# Altium schematic symbol library RUF-Conectores.SchLib: 69 symbols
Pins are listed as number, name and electrical type; pins without a type are passive.

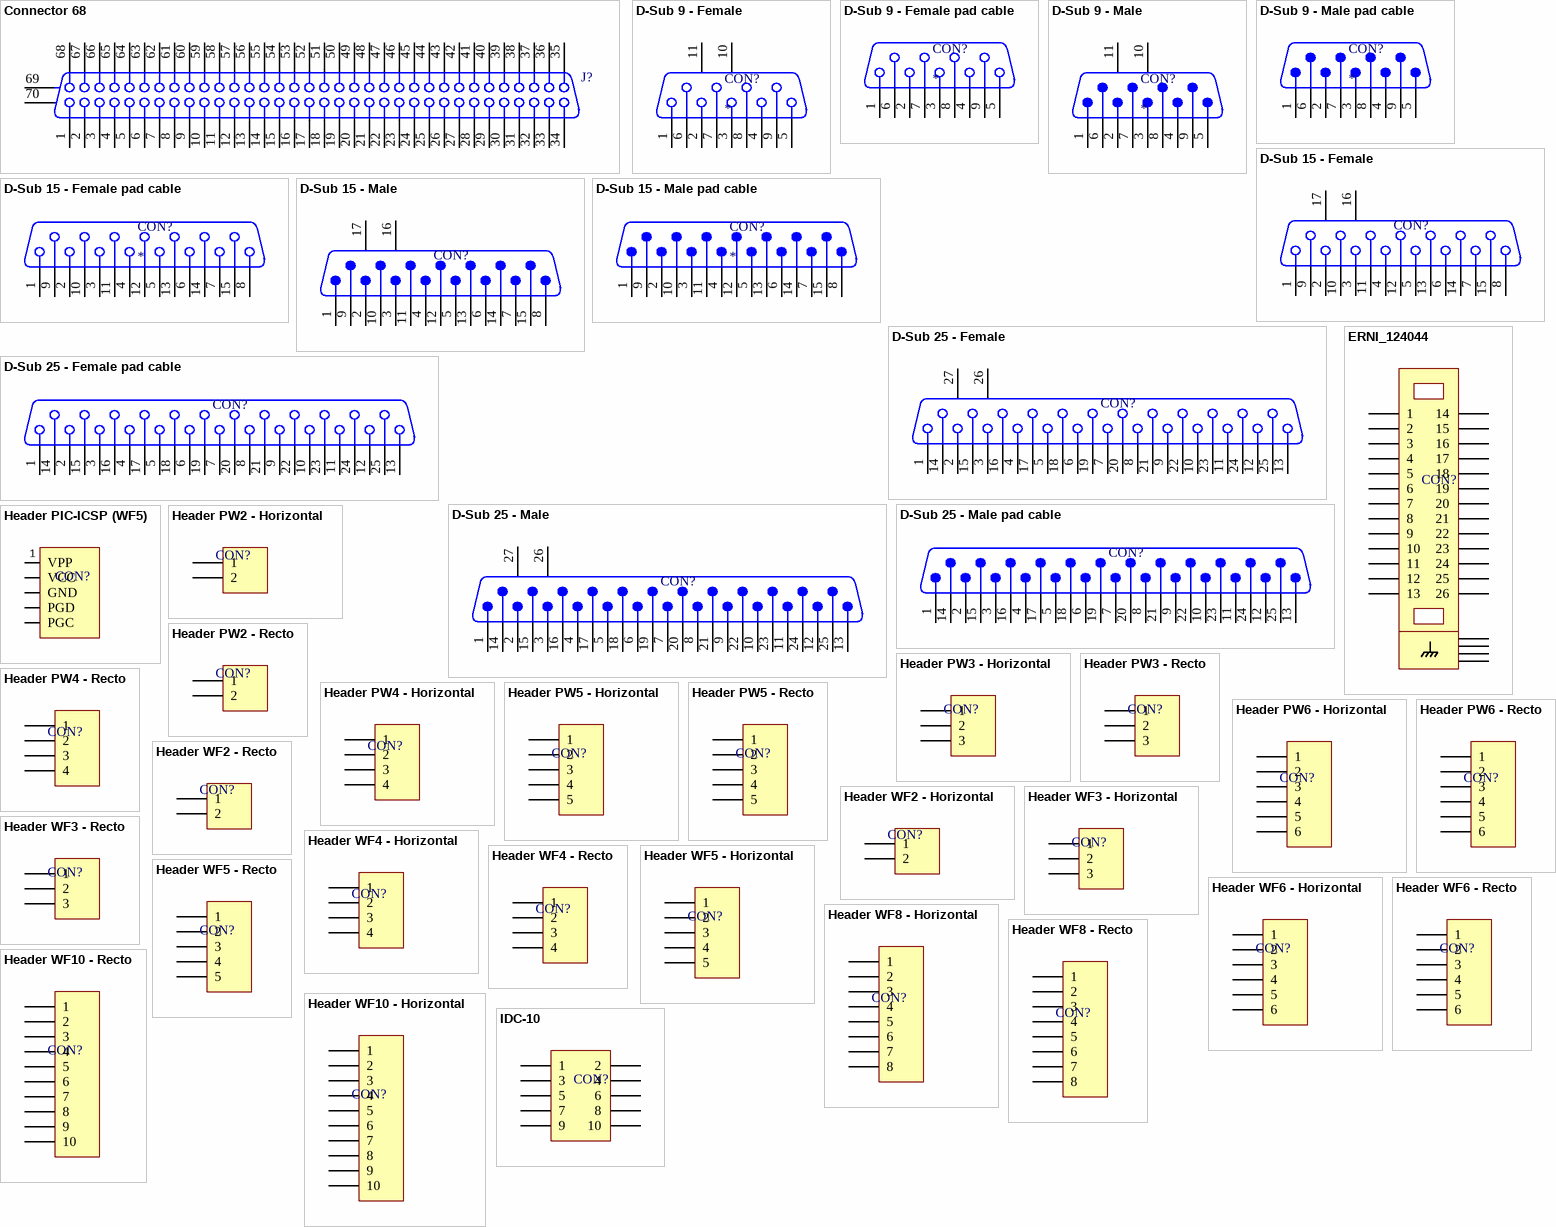
[diagram p0: symbols Connector 68 to IDC-10]

## Connector 68
designator J?
Receptacle Header Assemby; PackageDocument: B; Positions: 68; Published: 15-Jun-2001; LatestRevisionDate: 17-Jul-2002; LatestRevisionNote: Re-released for DXP Platform.; DatasheetDocument: 1-Oct-1983; PackageReference: 178240-8; Publisher: Altium Limited; Orientation: Right Angle
footprint CHAMP1.27-2H68 (Connector; 68 Position; Right Angle; Pitch 1.27 mm)
signal-integrity model Connector
footprint TYCO POST HEADER AMPLIMITE (Connector; 68 Position; Right Angle; Pitch 1.27 mm)
pins: 1, 2, 3, 4, 5, 6, 7, 8, 9, 10, 11, 12, 13, 14, 15, 16, 17, 18, 19, 20, 21, 22, 23, 24, 25, 26, 27, 28, 29, 30, 31, 32, 33, 34, 35, 36, 37, 38, 39, 40, 41, 42, 43, 44, 45, 46, 47, 48, 49, 50, 51, 52, 53, 54, 55, 56, 57, 58, 59, 60, 61, 62, 63, 64, 65, 66, 67, 68, 69 MH1, 70 MH2

## D-Sub 9 - Female
designator CON?
PROVEEDOR: *; VALOR: *; PART NUMBER: *; FABRICANTE: *; CODIGO STI: *
footprint D-Sub 9 - Female
pins: 1, 2, 3, 4, 5, 6, 7, 8, 9, 10 MH1, 11 MH2

## D-Sub 9 - Female pad cable
designator CON?
PROVEEDOR: *; VALOR: *; FABRICANTE: *; CODIGO STI: *; PART NUMBER: *
footprint D-Sub 9 - Female PAD
footprint D-Sub 9 - Female PAD MINI
pins: 1, 2, 3, 4, 5, 6, 7, 8, 9

## D-Sub 9 - Male
designator CON?
PROVEEDOR: *; VALOR: *; FABRICANTE: *; CODIGO STI: *; PART NUMBER: *
footprint D-Sub 9 - Male
pins: 1, 2, 3, 4, 5, 6, 7, 8, 9, 10 MH1, 11 MH2

## D-Sub 9 - Male pad cable
designator CON?
PROVEEDOR: *; VALOR: *; FABRICANTE: *; CODIGO STI: *; PART NUMBER: *
footprint D-Sub 9 - Male PAD
footprint D-Sub 9 - Male PAD MINI
pins: 1, 2, 3, 4, 5, 6, 7, 8, 9

## D-Sub 15 - Female
designator CON?  (value not drawn)
PROVEEDOR: *; VALOR: *; FABRICANTE: *; CODIGO STI: *; PART NUMBER: *
footprint D-Sub 15 - Female
pins: 1, 2, 3, 4, 5, 6, 7, 8, 9, 10, 11, 12, 13, 14, 15, 16 MH1, 17 MH2

## D-Sub 15 - Female pad cable
designator CON?
PROVEEDOR: *; VALOR: *; FABRICANTE: *; CODIGO STI: *; PART NUMBER: *
footprint D-Sub 15 - Female PAD
footprint D-Sub 15 - Female PAD MINI
pins: 1, 2, 3, 4, 5, 6, 7, 8, 9, 10, 11, 12, 13, 14, 15

## D-Sub 15 - Male
designator CON?  (value not drawn)
PROVEEDOR: *; VALOR: *; FABRICANTE: *; CODIGO STI: *; PART NUMBER: *
footprint D-Sub 15 - Male
pins: 1, 2, 3, 4, 5, 6, 7, 8, 9, 10, 11, 12, 13, 14, 15, 16 MH1, 17 MH2

## D-Sub 15 - Male pad cable
designator CON?
PROVEEDOR: *; VALOR: *; FABRICANTE: *; CODIGO STI: *; PART NUMBER: *
footprint D-Sub 15 - Male PAD
footprint D-Sub 15 - Male PAD MINI
pins: 1, 2, 3, 4, 5, 6, 7, 8, 9, 10, 11, 12, 13, 14, 15

## D-Sub 25 - Female
designator CON?  (value not drawn)
PROVEEDOR: *; VALOR: *; FABRICANTE: *; CODIGO STI: *; PART NUMBER: *
footprint D-Sub 25 - Female
pins: 1, 2, 3, 4, 5, 6, 7, 8, 9, 10, 11, 12, 13, 14, 15, 16, 17, 18, 19, 20, 21, 22, 23, 24, 25, 26 MH1, 27 MH2

## D-Sub 25 - Female pad cable
designator CON?  (value not drawn)
PROVEEDOR: *; VALOR: *; FABRICANTE: *; CODIGO STI: *; PART NUMBER: *
footprint D-Sub 25 - Female PAD
footprint D-Sub 25 - Female PAD MINI
pins: 1, 2, 3, 4, 5, 6, 7, 8, 9, 10, 11, 12, 13, 14, 15, 16, 17, 18, 19, 20, 21, 22, 23, 24, 25

## D-Sub 25 - Male
designator CON?  (value not drawn)
PROVEEDOR: *; VALOR: *; FABRICANTE: *; CODIGO STI: *; PART NUMBER: *
footprint D-Sub 25 - Male
pins: 1, 2, 3, 4, 5, 6, 7, 8, 9, 10, 11, 12, 13, 14, 15, 16, 17, 18, 19, 20, 21, 22, 23, 24, 25, 26 MH1, 27 MH2

## D-Sub 25 - Male pad cable
designator CON?  (value not drawn)
PROVEEDOR: *; VALOR: *; FABRICANTE: *; CODIGO STI: *; PART NUMBER: *
footprint D-Sub 25 - Male PAD
footprint D-Sub 25 - Male PAD MINI
pins: 1, 2, 3, 4, 5, 6, 7, 8, 9, 10, 11, 12, 13, 14, 15, 16, 17, 18, 19, 20, 21, 22, 23, 24, 25

## ERNI_124044
designator CON?  (value not drawn)
Conector de 26 vias hembra; VALOR: 124044; FABRICANTE: ERNI; PROVEEDOR: *; PART NUMBER: *; CODIGO STI: *
footprint ERNI_124044
pins: 1, 2, 3, 4, 5, 6, 7, 8, 9, 10, 11, 12, 13, 14, 15, 16, 17, 18, 19, 20, 21, 22, 23, 24, 25, 26, 27 CHASIS "Shield", 28 CHASIS "Shield", 29 CHASIS "Shield", 30 CHASIS "Shield"

## Header PIC-ICSP (WF5)
designator CON?  (value not drawn)
Header WF - paso 0.1"; VALOR: *; PROVEEDOR: *; FABRICANTE: *; CODIGO STI: *; PART NUMBER: *
footprint WF5 - Recto (Conector con traba)
footprint WF5 - Horizontal
pins: 1 VPP, 2 VCC, 3 GND, 4 PGD, 5 PGC

## Header PW2 - Horizontal
designator CON?  (value not drawn)
Header PW - paso 0.156"; PROVEEDOR: *; FABRICANTE: *; CODIGO STI: *; PART NUMBER: *
footprint PW2 - HORIZONTAL (Conector 7 [A] 2 pines con traba)
pins: 1, 2

## Header PW2 - Recto
designator CON?  (value not drawn)
Header PW - paso 0.156"; PROVEEDOR: *; FABRICANTE: *; CODIGO STI: *; PART NUMBER: *
footprint PW2 - Recto (Conector 7 [A] 2 pines con traba)
pins: 1, 2

## Header PW3 - Horizontal
designator CON?  (value not drawn)
Header PW - paso 0.156"; PROVEEDOR: *; FABRICANTE: *; CODIGO STI: *; PART NUMBER: *
footprint PW3 - HORIZONTAL (Conector 7 [A] 2 pines con traba)
pins: 1, 2, 3

## Header PW3 - Recto
designator CON?  (value not drawn)
Header PW - paso 0.156"; PROVEEDOR: *; FABRICANTE: *; CODIGO STI: *; PART NUMBER: *
footprint PW3 - Recto (Conector 7 [A] 2 pines con traba)
pins: 1, 2, 3

## Header PW4 - Horizontal
designator CON?  (value not drawn)
Header PW - paso 0.156"; PROVEEDOR: *; FABRICANTE: *; CODIGO STI: *; PART NUMBER: *
footprint PW4 - HORIZONTAL (Conector 7 [A] 2 pines con traba)
pins: 1, 2, 3, 4

## Header PW4 - Recto
designator CON?  (value not drawn)
Header PW - paso 0.156"; PROVEEDOR: *; FABRICANTE: *; CODIGO STI: *; PART NUMBER: *
footprint PW4 - Recto (Conector 7 [A] 2 pines con traba)
pins: 1, 2, 3, 4

## Header PW5 - Horizontal
designator CON?  (value not drawn)
Header PW - paso 0.156"; PROVEEDOR: *; FABRICANTE: *; CODIGO STI: *; PART NUMBER: *
footprint PW5 - HORIZONTAL
pins: 1, 2, 3, 4, 5

## Header PW5 - Recto
designator CON?  (value not drawn)
Header PW - paso 0.156"; PROVEEDOR: *; FABRICANTE: *; CODIGO STI: *; PART NUMBER: *
footprint PW5 - Recto
pins: 1, 2, 3, 4, 5

## Header PW6 - Horizontal
designator CON?  (value not drawn)
Header PW - paso 0.156"; PROVEEDOR: *; FABRICANTE: *; CODIGO STI: *; PART NUMBER: *
footprint PW6 - HORIZONTAL
pins: 1, 2, 3, 4, 5, 6

## Header PW6 - Recto
designator CON?  (value not drawn)
Header PW - paso 0.156"; PROVEEDOR: *; FABRICANTE: *; CODIGO STI: *; PART NUMBER: *
footprint PW6 - Recto
pins: 1, 2, 3, 4, 5, 6

## Header WF2 - Horizontal
designator CON?  (value not drawn)
Header WF - paso 0.1"; VALOR: *; PROVEEDOR: *; FABRICANTE: *; CODIGO STI: *; PART NUMBER: *
footprint WF2 - HORIZONTAL
pins: 1, 2

## Header WF2 - Recto
designator CON?  (value not drawn)
Header WF - paso 0.1"; PROVEEDOR: *; FABRICANTE: *; CODIGO STI: *; PART NUMBER: *
footprint WF2 - RECTO (Conector con traba)
pins: 1, 2

## Header WF3 - Horizontal
designator CON?  (value not drawn)
Header WF - paso 0.1"; VALOR: *; PROVEEDOR: *; FABRICANTE: *; CODIGO STI: *; PART NUMBER: *
footprint WF3 - HORIZONTAL
pins: 1, 2, 3

## Header WF3 - Recto
designator CON?  (value not drawn)
Header WF - paso 0.1"; PROVEEDOR: 3 vias; FABRICANTE: *; VALOR: *; CODIGO STI: *; PART NUMBER: *
footprint WF3 - RECTO (Conector con traba)
pins: 1, 2, 3

## Header WF4 - Horizontal
designator CON?  (value not drawn)
Header WF - paso 0.1"; PROVEEDOR: *; PART NUMBER: *; FABRICANTE: *; CODIGO STI: *
footprint WF4 - Horizontal
pins: 1, 2, 3, 4

## Header WF4 - Recto
designator CON?  (value not drawn)
Header WF - paso 0.1"; PROVEEDOR: *; VALOR: *; FABRICANTE: *; PART NUMBER: *; CODIGO STI: *
footprint WF4 - Recto (Conector con traba)
pins: 1, 2, 3, 4

## Header WF5 - Horizontal
designator CON?  (value not drawn)
Header WF - paso 0.1"; VALOR: *; PROVEEDOR: *; FABRICANTE: *; CODIGO STI: *; PART NUMBER: *
footprint WF5 - HORIZONTAL
pins: 1, 2, 3, 4, 5

## Header WF5 - Recto
designator CON?  (value not drawn)
Header WF - paso 0.1"; PROVEEDOR: *; FABRICANTE: *; CODIGO STI: *; PART NUMBER: *
footprint WF5 - Recto (Conector con traba)
pins: 1, 2, 3, 4, 5

## Header WF6 - Horizontal
designator CON?  (value not drawn)
Header WF - paso 0.1"; PROVEEDOR: *; FABRICANTE: *; CODIGO STI: *; PART NUMBER: *
footprint WF6 - Horizontal
pins: 1, 2, 3, 4, 5, 6

## Header WF6 - Recto
designator CON?  (value not drawn)
Header WF - paso 0.1"; VALOR: 6 vias; PROVEEDOR: *; FABRICANTE: *; CODIGO STI: *; PART NUMBER: *
footprint WF6 - RECTO (Conector con traba)
pins: 1, 2, 3, 4, 5, 6

## Header WF8 - Horizontal
designator CON?  (value not drawn)
Header WF - paso 0.1"; VALOR: 6 vias; PROVEEDOR: *; FABRICANTE: *; CODIGO STI: *; PART NUMBER: *
footprint WF8 - HORIZONTAL
pins: 1, 2, 3, 4, 5, 6, 7, 8

## Header WF8 - Recto
designator CON?  (value not drawn)
Header WF - paso 0.1"; VALOR: 6 vias; PROVEEDOR: *; FABRICANTE: *; CODIGO STI: *; PART NUMBER: *
footprint WF8 - RECTO (Conector con traba)
pins: 1, 2, 3, 4, 5, 6, 7, 8

## Header WF10 - Horizontal
designator CON?  (value not drawn)
Header WF - paso 0.1"; VALOR: 10 vias; PROVEEDOR: *; FABRICANTE: *; CODIGO STI: *; PART NUMBER: *
footprint WF10 - HORIZONTAL
pins: 1, 2, 3, 4, 5, 6, 7, 8, 9, 10

## Header WF10 - Recto
designator CON?  (value not drawn)
Header WF - paso 0.1"; PROVEEDOR: *; VALOR: *; FABRICANTE: *; CODIGO STI: *; PART NUMBER: *
footprint WF10 - RECTO (Conector con traba)
pins: 1, 2, 3, 4, 5, 6, 7, 8, 9, 10

## IDC-10
designator CON?  (value not drawn)
Conector IDC para cable plano; PROVEEDOR: *; VALOR: *; FABRICANTE: *; CODIGO STI: *; PART NUMBER: *
footprint IDC-10 (Conector con traba para cable plano)
pins: 1, 2, 3, 4, 5, 6, 7, 8, 9, 10

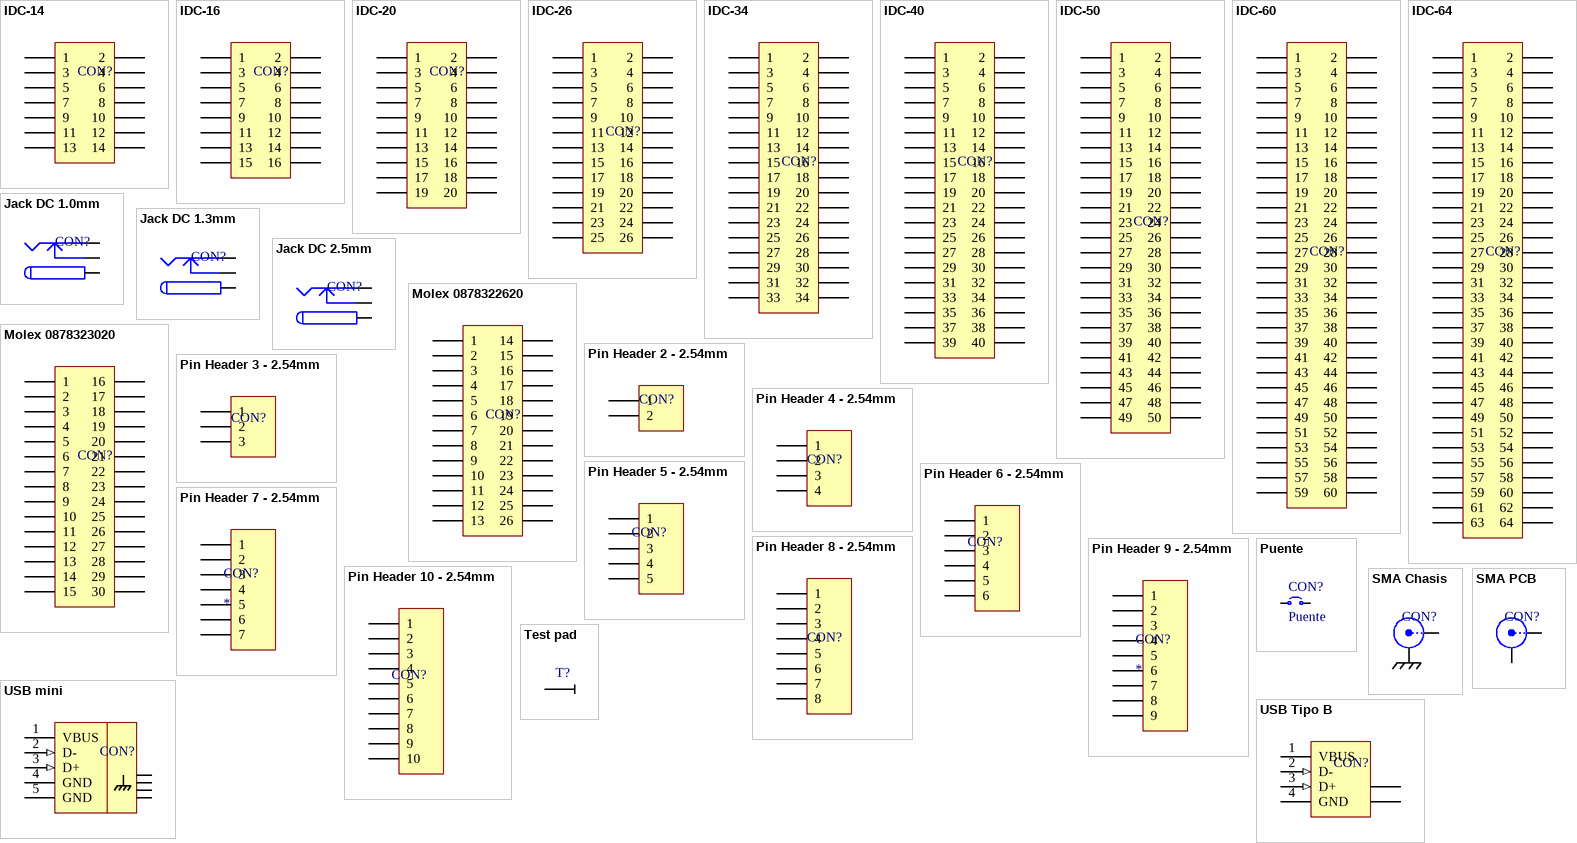
[diagram p1: symbols IDC-14 to USB Tipo B]

## IDC-14
designator CON?  (value not drawn)
Conector IDC para cable plano; PROVEEDOR: *; VALOR: *; FABRICANTE: *; CODIGO STI: *; PART NUMBER: *
footprint IDC-14 (Conector con traba para cable plano)
pins: 1, 2, 3, 4, 5, 6, 7, 8, 9, 10, 11, 12, 13, 14

## IDC-16
designator CON?  (value not drawn)
Conector IDC para cable plano; PROVEEDOR: *; VALOR: *; FABRICANTE: *; CODIGO STI: *; PART NUMBER: *
footprint IDC-16 (Conector con traba para cable plano)
pins: 1, 2, 3, 4, 5, 6, 7, 8, 9, 10, 11, 12, 13, 14, 15, 16

## IDC-20
designator CON?  (value not drawn)
Conector IDC para cable plano; PROVEEDOR: *; VALOR: *; FABRICANTE: *; CODIGO STI: *; PART NUMBER: *
footprint IDC-20 (Conector con traba para cable plano)
pins: 1, 2, 3, 4, 5, 6, 7, 8, 9, 10, 11, 12, 13, 14, 15, 16, 17, 18, 19, 20

## IDC-26
designator CON?  (value not drawn)
Conector IDC para cable plano; PROVEEDOR: *; VALOR: *; FABRICANTE: *; CODIGO STI: *; PART NUMBER: *
footprint IDC-26 (Conector con traba para cable plano)
pins: 1, 2, 3, 4, 5, 6, 7, 8, 9, 10, 11, 12, 13, 14, 15, 16, 17, 18, 19, 20, 21, 22, 23, 24, 25, 26

## IDC-34
designator CON?  (value not drawn)
Conector IDC para cable plano; PROVEEDOR: *; VALOR: *; FABRICANTE: *; CODIGO STI: *; PART NUMBER: *
footprint IDC-34 (Conector con traba para cable plano)
pins: 1, 2, 3, 4, 5, 6, 7, 8, 9, 10, 11, 12, 13, 14, 15, 16, 17, 18, 19, 20, 21, 22, 23, 24, 25, 26, 27, 28, 29, 30, 31, 32, 33, 34

## IDC-40
designator CON?  (value not drawn)
Conector IDC para cable plano; PROVEEDOR: *; VALOR: *; FABRICANTE: *; CODIGO STI: *; PART NUMBER: *
footprint IDC-40 (Conector con traba para cable plano)
pins: 1, 2, 3, 4, 5, 6, 7, 8, 9, 10, 11, 12, 13, 14, 15, 16, 17, 18, 19, 20, 21, 22, 23, 24, 25, 26, 27, 28, 29, 30, 31, 32, 33, 34, 35, 36, 37, 38, 39, 40

## IDC-50
designator CON?  (value not drawn)
Conector IDC para cable plano; PROVEEDOR: *; VALOR: *; FABRICANTE: *; CODIGO STI: *; PART NUMBER: *
footprint IDC-50 (Conector con traba para cable plano)
pins: 1, 2, 3, 4, 5, 6, 7, 8, 9, 10, 11, 12, 13, 14, 15, 16, 17, 18, 19, 20, 21, 22, 23, 24, 25, 26, 27, 28, 29, 30, 31, 32, 33, 34, 35, 36, 37, 38, 39, 40, 41, 42, 43, 44, 45, 46, 47, 48, 49, 50

## IDC-60
designator CON?  (value not drawn)
Conector IDC para cable plano; PROVEEDOR: *; VALOR: *; FABRICANTE: *; CODIGO STI: *; PART NUMBER: *
footprint IDC-60 (Conector con traba para cable plano)
pins: 1, 2, 3, 4, 5, 6, 7, 8, 9, 10, 11, 12, 13, 14, 15, 16, 17, 18, 19, 20, 21, 22, 23, 24, 25, 26, 27, 28, 29, 30, 31, 32, 33, 34, 35, 36, 37, 38, 39, 40, 41, 42, 43, 44, 45, 46, 47, 48, 49, 50, 51, 52, 53, 54, 55, 56, 57, 58, 59, 60

## IDC-64
designator CON?  (value not drawn)
Conector IDC para cable plano; PROVEEDOR: *; VALOR: *; FABRICANTE: *; CODIGO STI: *; PART NUMBER: *
footprint IDC-64 (Conector con traba para cable plano)
pins: 1, 2, 3, 4, 5, 6, 7, 8, 9, 10, 11, 12, 13, 14, 15, 16, 17, 18, 19, 20, 21, 22, 23, 24, 25, 26, 27, 28, 29, 30, 31, 32, 33, 34, 35, 36, 37, 38, 39, 40, 41, 42, 43, 44, 45, 46, 47, 48, 49, 50, 51, 52, 53, 54, 55, 56, 57, 58, 59, 60, 61, 62, 63, 64

## Jack DC 1.0mm
designator CON?  (value not drawn)
Jack DC; PROVEEDOR: *; VALOR: *; FABRICANTE: *; CODIGO STI: *; PART NUMBER: *
footprint JACK-DC centro 1mm
pins: 1A (power), 1B (power), 1C (power), 2A (power), 2B (power), 2C (power), 3A (power), 3B (power), 3C (power)

## Jack DC 1.3mm
designator CON?  (value not drawn)
Jack DC; PROVEEDOR: *; VALOR: *; FABRICANTE: *; CODIGO STI: *; PART NUMBER: *
footprint JACK-DC centro 1.3mm
pins: 1A (power), 1B (power), 1C (power), 2A (power), 2B (power), 2C (power), 3A (power), 3B (power), 3C (power)

## Jack DC 2.5mm
designator CON?  (value not drawn)
Jack DC; PROVEEDOR: *; VALOR: *; FABRICANTE: *; CODIGO STI: *; PART NUMBER: *
footprint JACK-DC centro 2mm
pins: 1A (power), 1B (power), 1C (power), 2A (power), 2B (power), 2C (power), 3A (power), 3B (power), 3C (power)

## Molex 0878322620
designator CON?  (value not drawn)
Conector 26 Terminales Molex; PROVEEDOR: *; VALOR: *; FABRICANTE: *; CODIGO STI: *; PART NUMBER: *
footprint Molex 0878322620
pins: 1, 2, 3, 4, 5, 6, 7, 8, 9, 10, 11, 12, 13, 14, 15, 16, 17, 18, 19, 20, 21, 22, 23, 24, 25, 26

## Molex 0878323020
designator CON?  (value not drawn)
Conector 30 Terminales Molex; PROVEEDOR: *; VALOR: *; FABRICANTE: *; CODIGO STI: *; PART NUMBER: *
footprint MOLEX 0878323020
pins: 1, 2, 3, 4, 5, 6, 7, 8, 9, 10, 11, 12, 13, 14, 15, 16, 17, 18, 19, 20, 21, 22, 23, 24, 25, 26, 27, 28, 29, 30

## Pin Header 2 - 2.54mm
designator CON?  (value not drawn)
Tira de pines; PROVEEDOR: *; VALOR: *; CODIGO STI: *; FABRICANTE: *; PART NUMBER: *
footprint PIN HEADER 2 - P2.54MM H11.2MM
pins: 1, 2

## Pin Header 3 - 2.54mm
designator CON?  (value not drawn)
Tira de pines; PROVEEDOR: *; VALOR: *; CODIGO STI: *; FABRICANTE: *; PART NUMBER: *
footprint PIN HEADER 3 - P2.54MM H11.2MM
pins: 1, 2, 3

## Pin Header 4 - 2.54mm
designator CON?  (value not drawn)
Tira de pines; PROVEEDOR: *; VALOR: *; CODIGO STI: *; FABRICANTE: *; PART NUMBER: *
footprint PIN HEADER 4 - P2.54MM H11.2MM
pins: 1, 2, 3, 4

## Pin Header 5 - 2.54mm
designator CON?  (value not drawn)
Tira de pines; PROVEEDOR: *; VALOR: *; CODIGO STI: *; FABRICANTE: *; PART NUMBER: *
footprint PIN HEADER 5 - P2.54MM H11.2MM
pins: 1, 2, 3, 4, 5

## Pin Header 6 - 2.54mm
designator CON?  (value not drawn)
Tira de pines; PROVEEDOR: *; VALOR: *; CODIGO STI: *; FABRICANTE: *; PART NUMBER: *
footprint PIN HEADER 6 - P2.54MM H11.2MM
pins: 1, 2, 3, 4, 5, 6

## Pin Header 7 - 2.54mm
designator CON?
Tira de pines; PROVEEDOR: *; VALOR: *; CODIGO STI: *; FABRICANTE: *; PART NUMBER: *
footprint PIN HEADER 7 - P2.54MM H11.2MM
pins: 1, 2, 3, 4, 5, 6, 7

## Pin Header 8 - 2.54mm
designator CON?  (value not drawn)
Tira de pines; PROVEEDOR: *; VALOR: *; CODIGO STI: *; FABRICANTE: *; PART NUMBER: *
footprint PIN HEADER 8 - P2.54MM H11.2MM
pins: 1, 2, 3, 4, 5, 6, 7, 8

## Pin Header 9 - 2.54mm
designator CON?
Tira de pines; PROVEEDOR: *; VALOR: *; CODIGO STI: *; FABRICANTE: *; PART NUMBER: *
footprint PIN HEADER 9 - P2.54MM H11.2MM
pins: 1, 2, 3, 4, 5, 6, 7, 8, 9

## Pin Header 10 - 2.54mm
designator CON?  (value not drawn)
Tira de pines; PROVEEDOR: *; VALOR: *; CODIGO STI: *; FABRICANTE: *; PART NUMBER: *
footprint PIN HEADER 10 - P2.54MM H11.2MM
pins: 1, 2, 3, 4, 5, 6, 7, 8, 9, 10

## Puente
designator CON?
footprint PUENTE INS
footprint PUENTE 0805 (Conector con traba)
footprint PUENTE 1206
pins: 1, 2

## SMA Chasis
designator CON?  (value not drawn)
SMA Connector; VALOR: *; FABRICANTE: *; PROVEEDOR: *; CODIGO STI: *; PART NUMBER: *
footprint SMA_CHASIS_2_HOLE_RADIAL_R125462000
footprint SMA_CHASIS_4_HOLE_AMPHENOL_901-9215
pins: 1

## SMA PCB
designator CON?  (value not drawn)
SMA Conector; PROVEEDOR: *; VALOR: *; FABRICANTE: *; CODIGO STI: *; PART NUMBER: *
footprint SMA_PCB_1.6MM
footprint SMA_PCB_0.6MM
pins: 1 PORT, 2 GND

## Test pad
designator T?  (value not drawn)
Pad para Pruebas
footprint PAD_TEST_INS
footprint PAD_TEST_SMD
pins: 1

## USB mini
designator CON?  (value not drawn)
PROVEEDOR: *; VALOR: *; CODIGO STI: *; FABRICANTE: *; PART NUMBER: *
footprint USB_MINI
pins: 1 VBUS (power) "Power", 2 D- (in) "-DATA", 3 D+ (in) "+DATA", 4 GND (power) "Ground", 5 GND (power) "Ground", 6 CHASIS "Shield", 7 CHASIS "Shield", 8 CHASIS "Shield", 9 CHASIS "Shield"

## USB Tipo B
designator CON?  (value not drawn)
PROVEEDOR: *; VALOR: *; CODIGO STI: *; FABRICANTE: *; PART NUMBER: *
footprint USB_TipoB
pins: 1 VBUS (power) "Power", 2 D- (in) "-DATA", 3 D+ (in) "+DATA", 4 GND (power) "Ground", 5 SHLD "Shield", 6 SHLD "Shield"